# EAGLE library part CY7C1360 (library kamiki)
256k x 36 Synchronous Pipelined Burst SRAM
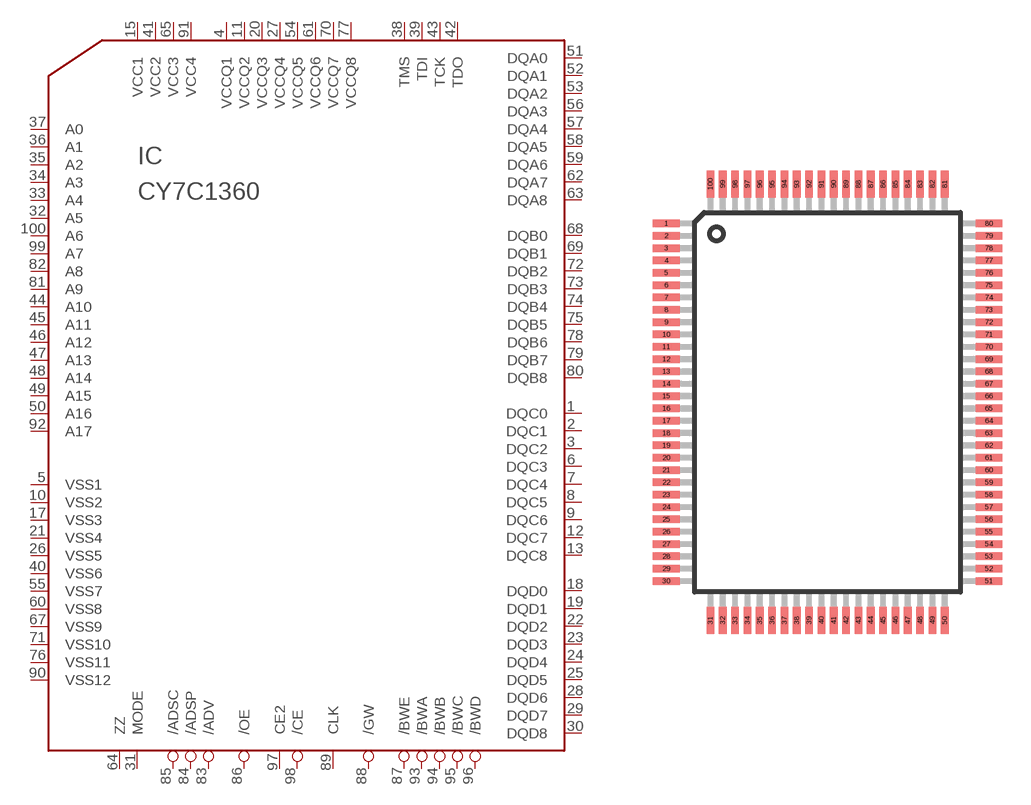
[diagram p13: symbol with the pads of TQFP-100; footprint TQFP-100]

Designator prefix IC

## CY7C1360AJ  [TQFP-100]
1  DQC0
2  DQC1
3  DQC2
4  VCCQ1  pwr
5  VSS1  pwr
6  DQC3
7  DQC4
8  DQC5
9  DQC6
10  VSS2  pwr
11  VCCQ2  pwr
12  DQC7
13  DQC8
15  VCC1  pwr
17  VSS3  pwr
18  DQD0
19  DQD1
20  VCCQ3  pwr
21  VSS4  pwr
22  DQD2
23  DQD3
24  DQD4
25  DQD5
26  VSS5  pwr
27  VCCQ4  pwr
28  DQD6
29  DQD7
30  DQD8
31  MODE  in
32  A5  in
33  A4  in
34  A3  in
35  A2  in
36  A1  in
37  A0  in
38  TMS  in
39  TDI  in
40  VSS6  pwr
41  VCC2  pwr
42  TDO  out
43  TCK  in
44  A10  in
45  A11  in
46  A12  in
47  A13  in
48  A14  in
49  A15  in
50  A16  in
51  DQA0
52  DQA1
53  DQA2
54  VCCQ5  pwr
55  VSS7  pwr
56  DQA3
57  DQA4
58  DQA5
59  DQA6
60  VSS8  pwr
61  VCCQ6  pwr
62  DQA7
63  DQA8
64  ZZ  in
65  VCC3  pwr
67  VSS9  pwr
68  DQB0
69  DQB1
70  VCCQ7  pwr
71  VSS10  pwr
72  DQB2
73  DQB3
74  DQB4
75  DQB5
76  VSS11  pwr
77  VCCQ8  pwr
78  DQB6
79  DQB7
80  DQB8
81  A9  in
82  A8  in
83  /ADV  in
84  /ADSP  in
85  /ADSC  in
86  /OE  in
87  /BWE  in
88  /GW  in
89  CLK  in
90  VSS12  pwr
91  VCC4  pwr
92  A17  in
93  /BWA  in
94  /BWB  in
95  /BWC  in
96  /BWD  in
97  CE2  in
98  /CE  in
99  A7  in
100  A6  in

## Footprint TQFP-100 (pad centres in mm)
Thin, Quad Flat Package 100 leads Die size = 14.00 x 20.00mm, Lead envelope size = 16.00 x 22.00mm.
smd 1.4 x 0.4: 1 -8.5,9.425; 2 -8.5,8.775; 3 -8.5,8.125; 4 -8.5,7.475; 5 -8.5,6.825; 6 -8.5,6.175; 7 -8.5,5.525; 8 -8.5,4.875; 9 -8.5,4.225; 10 -8.5,3.575; 11 -8.5,2.925; 12 -8.5,2.275; 13 -8.5,1.625; 14 -8.5,0.975; 15 -8.5,0.325; 16 -8.5,-0.325; 17 -8.5,-0.975; 18 -8.5,-1.625; 19 -8.5,-2.275; 20 -8.5,-2.925; 21 -8.5,-3.575; 22 -8.5,-4.225; 23 -8.5,-4.875; 24 -8.5,-5.525; 25 -8.5,-6.175; 26 -8.5,-6.825; 27 -8.5,-7.475; 28 -8.5,-8.125; 29 -8.5,-8.775; 30 -8.5,-9.425; 51 8.5,-9.425; 52 8.5,-8.775; 53 8.5,-8.125; 54 8.5,-7.475; 55 8.5,-6.825; 56 8.5,-6.175; 57 8.5,-5.525; 58 8.5,-4.875; 59 8.5,-4.225; 60 8.5,-3.575; 61 8.5,-2.925; 62 8.5,-2.275; 63 8.5,-1.625; 64 8.5,-0.975; 65 8.5,-0.325; 66 8.5,0.325; 67 8.5,0.975; 68 8.5,1.625; 69 8.5,2.275; 70 8.5,2.925; 71 8.5,3.575; 72 8.5,4.225; 73 8.5,4.875; 74 8.5,5.525; 75 8.5,6.175; 76 8.5,6.825; 77 8.5,7.475; 78 8.5,8.125; 79 8.5,8.775; 80 8.5,9.425
smd 0.4 x 1.4: 31 -6.175,-11.5; 32 -5.525,-11.5; 33 -4.875,-11.5; 34 -4.225,-11.5; 35 -3.575,-11.5; 36 -2.925,-11.5; 37 -2.275,-11.5; 38 -1.625,-11.5; 39 -0.975,-11.5; 40 -0.325,-11.5; 41 0.325,-11.5; 42 0.975,-11.5; 43 1.625,-11.5; 44 2.275,-11.5; 45 2.925,-11.5; 46 3.575,-11.5; 47 4.225,-11.5; 48 4.875,-11.5; 49 5.525,-11.5; 50 6.175,-11.5; 81 6.175,11.5; 82 5.525,11.5; 83 4.875,11.5; 84 4.225,11.5; 85 3.575,11.5; 86 2.925,11.5; 87 2.275,11.5; 88 1.625,11.5; 89 0.975,11.5; 90 0.325,11.5; 91 -0.325,11.5; 92 -0.975,11.5; 93 -1.625,11.5; 94 -2.275,11.5; 95 -2.925,11.5; 96 -3.575,11.5; 97 -4.225,11.5; 98 -4.875,11.5; 99 -5.525,11.5; 100 -6.175,11.5